# Altium schematic symbol library LDO.SCHLIB: 24 symbols
Pins are listed as number, name and electrical type; pins without a type are passive.

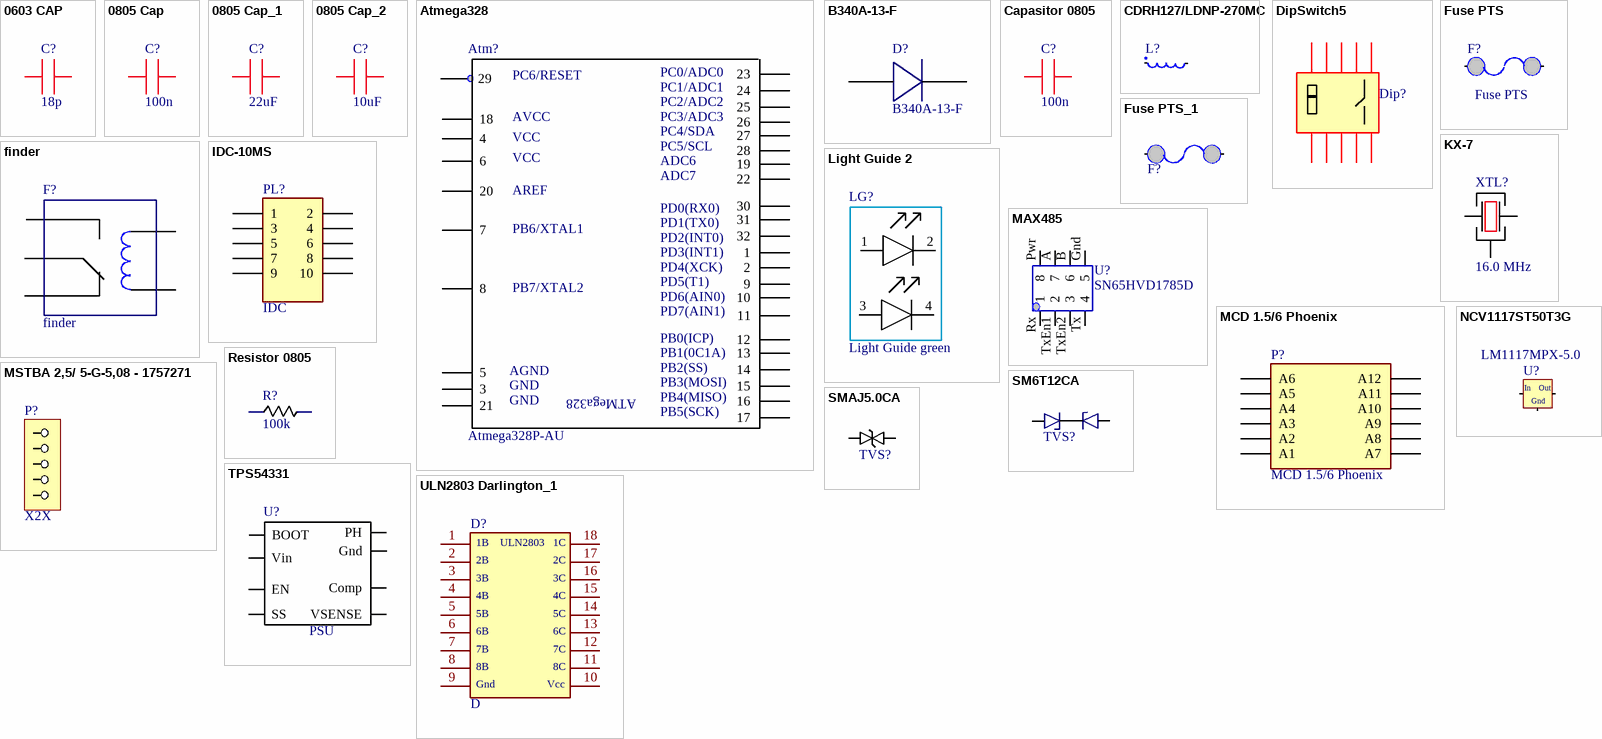
[diagram p0: symbols 0603 CAP to ULN2803 Darlington_1]

## 0603 CAP
designator C?, comment 18p
CC0603JRNPO9BN180
footprint 0603
pins: 1, 2

## 0805 Cap
designator C?, comment 100n
CC0603ZRY5V9BB104
footprint 0603
pins: 1, 2

## 0805 Cap_1
designator C?, comment 22uF
CC1210KKX5R7BB226
footprint 1206
pins: 1, 2

## 0805 Cap_2
designator C?, comment 10uF
GRM32ER71H106KA12L
footprint 1210
pins: 1, 2

## Atmega328
designator Atm?, comment Atmega328P-AU
footprint Atmega168
pins: 1, 2, 3, 4, 5, 6, 7, 8, 9, 10, 11, 12, 13, 14, 15, 16, 17, 18, 19, 20, 21, 22, 23, 24, 25, 26, 27, 28, 29, 30, 31, 32
text: PC6/RESET; PC0/ADC0; PC1/ADC1; PC2/ADC2; AVCC; PC3/ADC3; VCC; PC4/SDA; PC5/SCL; ADC6; ADC7; AREF; PD0(RX0); PD1(TX0); PB6/XTAL1; PD2(INT0); PD3(INT1); PD4(XCK); PD5(T1); PB7/XTAL2; PD6(AIN0); PD7(AIN1); PB0(ICP); PB1(0C1A); PB2(SS); AGND; PB3(MOSI); GND; ATMega328; PB4(MISO); PB5(SCK)

## B340A-13-F
designator D?
footprint B340A-13-F
pins: 1, 2 1

## Capasitor 0805
designator C?, comment 100n
CC0603ZRY5V9BB104
footprint 0603
pins: 1, 2

## CDRH127/LDNP-270MC
designator L?, comment CDRH127/LDNP-220MC  (value not drawn)
footprint CDRH127/LDNP-270MC,
pins: 1, 2

## DipSwitch5
designator Dip?, comment DS1040-05RT  (value not drawn)
DPL-05-V
footprint DipSwitch 5
pins: 1, 2 3, 3 5, 4 7, 5 9, 12 10, 13 8, 14 6, 15 4, 16 2

## finder
designator F?
G2RL124DC
footprint 413190240010 (Finder)
pins: 11, 12, 14 1, A1, A2

## Fuse PTS
designator F?
'MF-MSMF030-2
footprint Fuse USMF030
pins: 0, 1

## Fuse PTS_1
designator F?, comment Fuse PTS  (value not drawn)
MF-USMF005-2
footprint 1210
pins: 1, 2

## IDC-10MS
designator PL?, comment IDC
DS1013-10SSIB1-B-0
footprint IDC-10MS
pins: 1, 2, 3, 4, 5, 6, 7, 8, 9, 10

## KX-7
designator XTL?, comment 16.0 MHz
Geyer KX-7 16.0 MHz
footprint KX-7 XTAL
pins: 1 5, 2, 3 5

## Light Guide 2
designator LG?, comment Light Guide green
KP-1608SGC  /  KP-2012YD
footprint LED SMD DayLight
pins: 1, 2, 3, 4

## MAX485
designator U?, comment SN65HVD1785D
footprint MAX485 - duplicate (SOIC, 8-Leads, Body 4,90x3,90mm, Pitch 1,27mm, IPC Medium Density)
pins: A 7, B 6, Gnd 5, Pwr 8, Rx 1, Tx 4, TxEn1 2, TxEn2 3

## MCD 1.5/6 Phoenix
designator P?
LatestRevisionDate: 17-Jul-2002; LatestRevisionNote: Re-released for DXP Platform.; Publisher: Altium Limited
footprint mcd 1,5/6-G1-3.81
pins: 1 A6, 2 A12, 3 A5, 4 A11, 5 A4, 6 A10, 7 A3, 8 A9, 9 A2, 10 A8, 11 A1, 12 A7

## MSTBA 2,5/ 5-G-5,08 - 1757271
designator P?, comment X2X
MSTBA 2,5/ 5-G-5,08 - 1757271
footprint MSTBA 1757271
pins: 1, 2, 3, 4 2, 5 3

## NCV1117ST50T3G
designator U?, comment LM1117MPX-5.0
footprint SOT223
pins: 1 GND, 2 OUT, 3 IN
text: In; Out; Gnd

## Resistor 0805
designator R?, comment 100k
RC0603FR-07100KL
footprint 0603
pins: 1, 2

## SM6T12CA
designator TVS?, comment TVS Diode  (value not drawn)
SM6T12CA
footprint SM6T
pins: 1, 2

## SMAJ5.0CA
designator TVS?, comment 6V  (value not drawn)
SMAJ6.0CA
footprint DO-214AC
pins: 1, 2

## TPS54331
designator U?, comment PSU
TPS54331DR
footprint SOIC 8
pins: 1 BOOT, 2 Vin, 3 EN, 4 SS, 5 VSENSE, 6 Comp, 7 Gnd, 8 PH

## ULN2803 Darlington_1
designator D?, comment D
ULN2803ADWR
footprint SOIC 18
pins: 1, 2, 3, 4, 5, 6, 7, 8, 9, 10, 11, 12, 13, 14, 15, 16, 17, 18
text: 1B; ULN2803; 1C; 2B; 2C; 3B; 3C; 4B; 4C; 5B; 5C; 6B; 6C; 7B; 7C; 8B; 8C; Gnd; Vcc